# Altium footprint library PcbLib1.PcbLib: 22 footprints (part 1 of 2)
Each footprint in its own frame and in the unit in brackets; x right, y up, seen from the top. Pads: shape width x height; smd on the part's side, far side on the other; paste and mask are expansions set on the pad; w line width, h text height; cw(c..) or ccw(c..) is an arc to the next point about the centre after c.
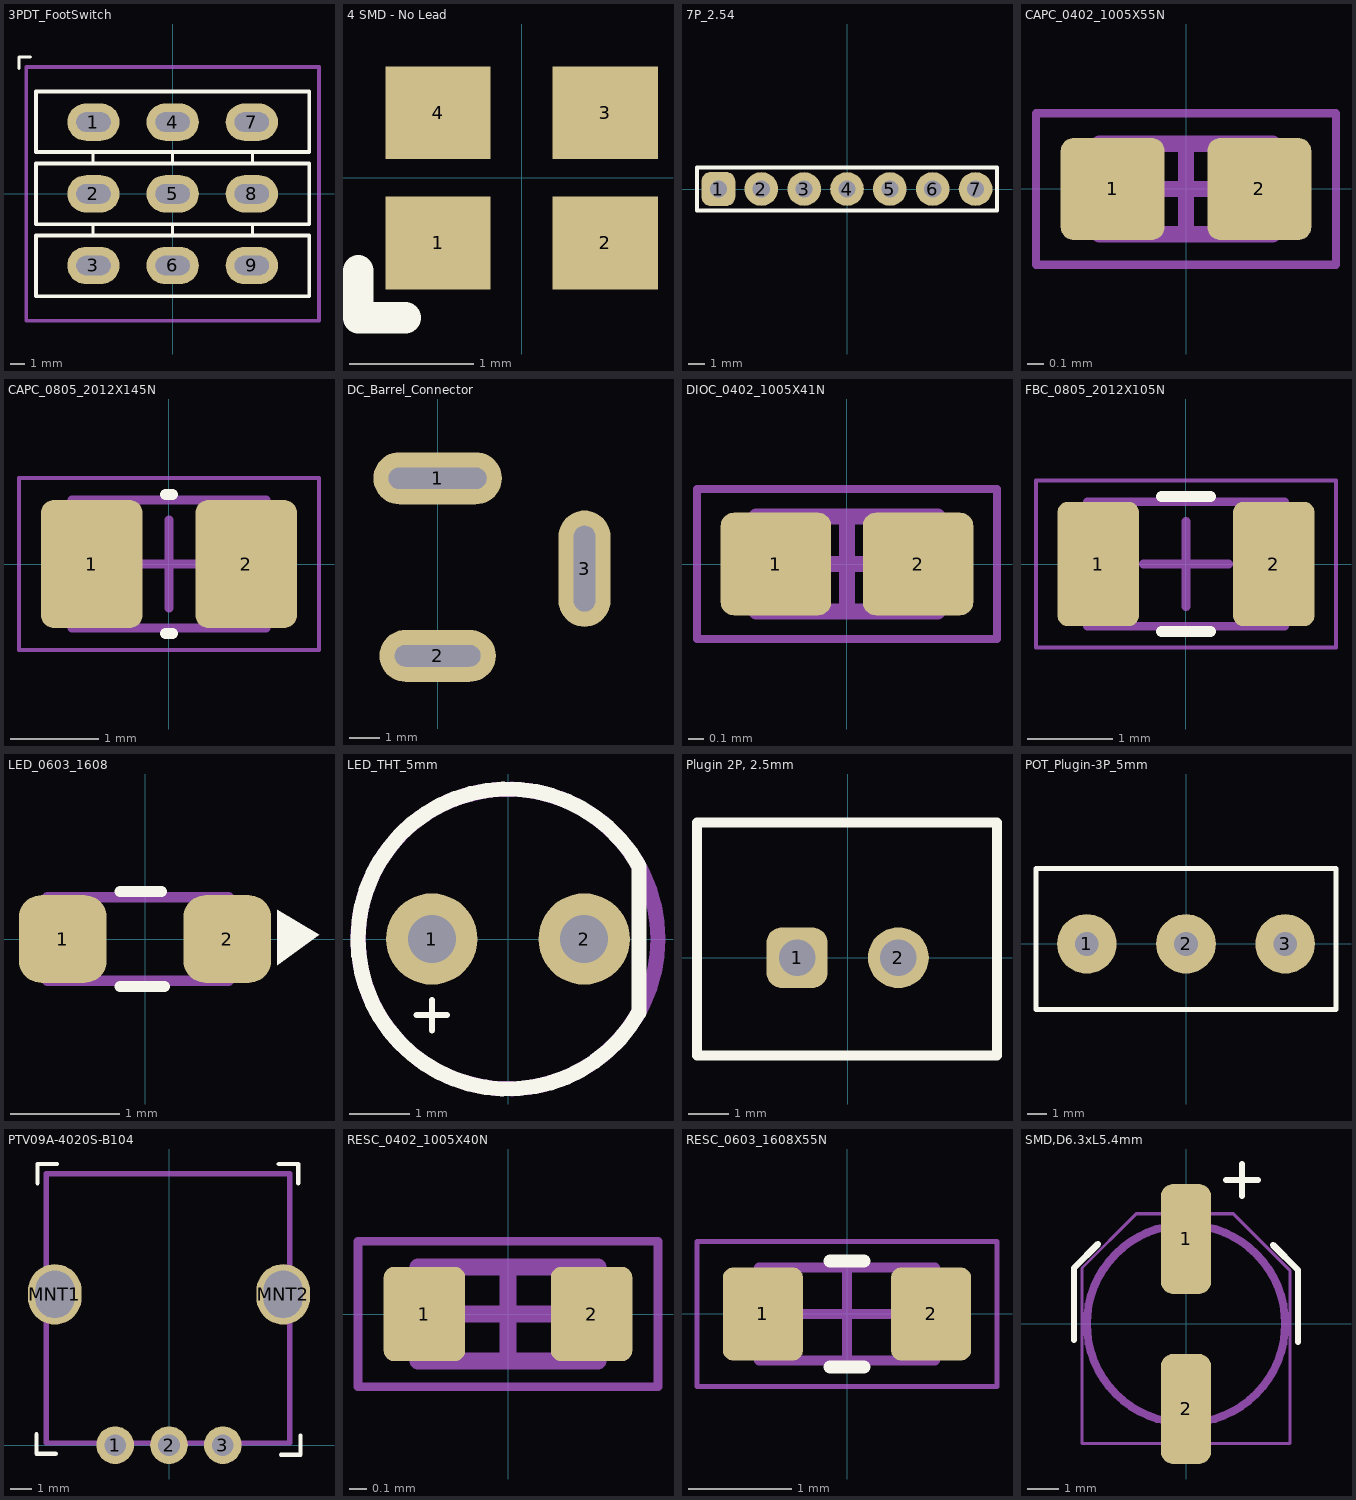
[diagram p0: the footprints below, top view; thin cyan lines are the x and y axes]

## 3PDT_FootSwitch [mm]
pads (9):
  oval 3.5x2.5 hole 1.3 slot 2.3 at 0 deg: 1(-5.3,4.8) 2(-5.3,0) 3(-5.3,-4.8) 4(0,4.8) 5(0,0) 6(0,-4.8) 7(5.3,4.8) 8(5.3,0) 9(5.3,-4.8)
Top Overlay:
  lines w0.2: -10.287,8.382 -10.287,9.144 -9.525,9.144 ; -5.337,-2.032 -5.335,-2.794 ; -5.334,2.032 -5.334,2.794 ; -0.003,-2.032 -0.001,-2.794 ; 0,2.032 0,2.794 ; 5.331,2.794 5.333,2.032 ; 5.334,-2.794 5.334,-2.032
  lines w0.254: -9.144,-6.858 9.144,-6.858 9.144,-2.794 -9.144,-2.794 -9.144,-6.858 ; -9.144,-2.032 9.144,-2.032 9.144,2.032 -9.144,2.032 -9.144,-2.032 ; -9.144,2.794 9.144,2.794 9.144,6.858 -9.144,6.858 -9.144,2.794
Mechanical 1:
  lines w0.254: -9.8,-8.5 9.8,-8.5 9.8,8.5 -9.8,8.5 -9.8,-8.5
3D body "FS57003PLT2B2M1QE.stp": height 39, standoff -2.4, extent -9.8,-8.5 9.8,8.5

## 4 SMD - No Lead [mm]
pads (4):
  rect 0.85x0.75 smd: 1(-0.675,-0.525) 2(0.675,-0.525) 3(0.675,0.525) 4(-0.675,0.525)
Top Overlay:
  lines w0.254: -1.321,-0.749 -1.321,-1.13 -0.94,-1.13
3D body "NX2016SA_NDK.step": height 0.51, standoff 0, extent -1.054,-0.851 1.054,0.851

## 7P_2.54 [mm] "7 Pin, 2.54mm pitch"
pads (7):
  rrect50% 2x2 hole 1.02: 1(-7.62,0)
  round 2 hole 1.02: 2(-5.08,0) 3(-2.54,0) 4(0,0) 5(2.54,0) 6(5.08,0) 7(7.62,0)
Top Overlay:
  lines w0.254: -8.89,-1.27 8.89,-1.27 8.89,1.27 -8.89,1.27 -8.89,-1.27
3D body "PPPC071LFBN-RC--3DModel-STEP-269445.STEP": height 8.51, standoff -3.2, extent -9.144,-1.27 9.144,1.27

## CAPC_0402_1005X55N [mm] "Chip Capacitor, 2-Leads, Body 1.00x0.50mm, IPC Medium Density"
height 0.55
pads (2):
  rrect25% 0.63x0.62 smd: 1(-0.445,0) 2(0.445,0)
Top Assembly:
  lines w0.1: -0.525,-0.275 -0.525,0.275 0.525,0.275 0.525,-0.275 -0.525,-0.275
Top Designator:
  text ".Designator" at 0,0.189 h1
Top Courtyard:
  lines w0.05: -0.91,-0.46 -0.91,0.46 0.91,0.46 0.91,-0.46 -0.91,-0.46
Top Component Center:
  lines w0.1: -0.275,0 0.275,0 ; 0,-0.275 0,0.275
3D body: height 0.55, standoff 0, extent -0.25,-0.25 0.25,0.25
3D body: height 0.55, standoff 0, extent -0.5,-0.25 -0.25,0.25
3D body: height 0.55, standoff 0, extent 0.25,-0.25 0.5,0.25

## CAPC_0805_2012X145N [mm] "Chip Capacitor, 2-Leads, Body 2.00x1.25mm, IPC Medium Density"
height 1.45
pads (2):
  rrect25% 1.15x1.45 smd: 1(-0.875,0) 2(0.875,0)
Top Overlay:
  lines w0.127: -0.036,-0.788 0.036,-0.788 ; -0.036,0.788 0.036,0.788
Top Assembly:
  lines w0.1: -1.1,-0.725 -1.1,0.725 1.1,0.725 1.1,-0.725 -1.1,-0.725
Top Designator:
  text ".Designator" at 0,0.189 h1
Top Courtyard:
  lines w0.05: -1.7,-0.975 -1.7,0.975 1.7,0.975 1.7,-0.975 -1.7,-0.975
Top Component Center:
  lines w0.1: -0.5,0 0.5,0 ; 0,-0.5 0,0.5
3D body: height 1.45, standoff 0, extent -0.5,-0.625 0.5,0.625
3D body: height 1.45, standoff 0, extent -1,-0.625 -0.5,0.625
3D body: height 1.45, standoff 0, extent 0.5,-0.625 1,0.625

## DC_Barrel_Connector [mm]
pads (3):
  oval 4.2x1.7 hole 0.7 slot 3.2 at 0 deg: 1(0,13.5)
  oval 3.8x1.7 hole 0.7 slot 2.8 at 0 deg: 2(0,7.7)
  oval 1.7x3.8 hole 0.7 slot 2.8 at 90 deg: 3(4.8,10.55)
3D body "694106301002 (rev1).stp": height 11.35, standoff -3.24, extent -4.5,-0.05 5,14.45

## DIOC_0402_1005X41N [mm] "Chip Diode, 2-Leads, Body 1.00x0.50mm, IPC Medium Density"
height 0.41
pads (2):
  rrect25% 0.7x0.65 smd: 1(-0.45,0) 2(0.45,0)
Top Assembly:
  lines w0.1: -0.575,-0.3 0.575,-0.3 0.575,0.3 -0.575,0.3 -0.575,-0.3
Top Designator:
  text ".Designator" at 0,0.189 h1
Top Courtyard:
  lines w0.05: -0.95,-0.475 0.95,-0.475 0.95,0.475 -0.95,0.475 -0.95,-0.475
Top Component Center:
  lines w0.1: -0.3,0 0.3,0 ; 0,-0.3 0,0.3
3D body: height 0.41, standoff 0, extent 0.25,-0.25 0.5,0.25
3D body: height 0.41, standoff 0, extent -0.5,-0.25 -0.25,0.25
3D body: height 0.41, standoff 0, extent -0.25,-0.25 0.25,0.25

## FBC_0805_2012X105N [mm] "Ferrite Bead, 2-Leads, Body 2.00x1.25mm, IPC Medium Density"
height 1.05
pads (2):
  rrect25% 0.95x1.45 smd: 1(-1.025,0) 2(1.025,0)
Top Overlay:
  lines w0.127: -0.286,-0.788 0.287,-0.788 ; -0.286,0.788 0.287,0.788
Top Assembly:
  lines w0.1: -1.15,-0.725 -1.15,0.725 1.15,0.725 1.15,-0.725 -1.15,-0.725
Top Designator:
  text ".Designator" at 0,0.189 h1
Top Courtyard:
  lines w0.05: -1.75,-0.975 -1.75,0.975 1.75,0.975 1.75,-0.975 -1.75,-0.975
Top Component Center:
  lines w0.1: -0.5,0 0.5,0 ; 0,-0.5 0,0.5
3D body: height 1.05, standoff 0, extent -0.71,-0.625 0.71,0.625
3D body: height 1.05, standoff 0, extent -1,-0.625 -0.71,0.625
3D body: height 1.05, standoff 0, extent 0.71,-0.625 1,0.625

## LED_0603_1608 [mm]
pads (2):
  rrect50% 0.8x0.8 smd: 1(-0.75,0) 2(0.75,0)
Top Overlay:
  region: 1.206,0.267 1.206,-0.241 1.587,0.038
  lines w0.1: -0.229,-0.432 0.178,-0.432 ; -0.229,0.432 0.152,0.432
Top Assembly:
  lines w0.1: -0.889,-0.381 0.762,-0.381 ; -0.889,0.381 0.762,0.381
3D body "LSM0603XXXV.STEP": height 0.55, standoff -0.03, extent -0.8,-0.406 0.8,0.394

## LED_THT_5mm [mil]
pads (2):
  round 60 hole 31.5: 1(-50,0) 2(50,0)
Top Overlay:
  lines w3.94: -60,-50 -40,-50 ; -50,-60 -50,-40
  lines w10: 85.76,-48.43 cw(c0,0) 86.09,47.83 86.09,-48.43
Mechanical 1:
  circle w10: c0,0 r98.43
3D body "L-53GD--3DModel-STEP-510211.STEP": height 377.95, standoff -1023.62, extent -115.51,-116.14 98.43,116.14

## Plugin 2P, 2.5mm [mm] "2.5mm pitch THT footprint"
pads (2):
  rrect50% 1.5x1.5 hole 0.9: 1(-1.25,0)
  round 1.5 hole 0.9: 2(1.25,0)
Top Overlay:
  lines w0.254: -3.717,-2.413 3.683,-2.413 3.683,3.337 -3.717,3.337 -3.717,-2.413
3D body "B2B-XH-A--3DModel-STEP-56544.STEP": height 7, standoff -3.4, extent -3.7,-2.367 3.7,3.383

## POT_Plugin-3P_5mm [mm] "Generic Footprint for Pots"
pads (3):
  round 3 hole 1.2: 1(-5,0) 2(0,0) 3(5,0)
Top Overlay:
  lines w0.254: -7.56,-3.302 7.56,-3.302 7.56,3.8 -7.56,3.8 -7.56,-3.302
3D body "Potentiometer.stp": height 22.25, standoff -3.3, extent -8.25,-18.7 8.25,5.6

## PTV09A-4020S-B104 [mm]
pads (5):
  round 1.75 hole 1: 1(-2.5,0) 2(0,0) 3(2.5,0)
  oval 2.5x2.8 hole 1.8 slot 2.2 at 90 deg unplated: MNT1(-5.3,7) MNT2(5.3,7)
Top Overlay:
  lines w0.2: -6.15,0.5 -6.15,-0.4 -5.25,-0.4 ; -6.1,12.15 -6.1,13.05 -5.2,13.05 ; 5.1,13.05 6,13.05 6,12.15 ; 5.2,-0.45 6.1,-0.45 6.1,0.45
Top 3D Body:
  lines w0.254: -5.7,0.1 5.6,0.1 5.6,12.6 -5.7,12.6 -5.7,0.1
3D body "R-0904N-L-25KQ.step": height 25, standoff -3.79, extent -5.661,0 5.661,12.6

## RESC_0402_1005X40N [mm] "Chip Resistor, 2-Leads, Body 1.00x0.50mm, IPC Medium Density"
height 0.4
pads (2):
  rrect25% 0.475x0.55 smd: 1(-0.487,0) 2(0.487,0)
Top Assembly:
  lines w0.1: -0.525,-0.275 0.525,-0.275 0.525,0.275 -0.525,0.275 -0.525,-0.275
Top Designator:
  text ".Designator" at 0,0.189 h1
Top Courtyard:
  lines w0.05: -0.875,-0.425 0.875,-0.425 0.875,0.425 -0.875,0.425 -0.875,-0.425
Top Component Center:
  lines w0.1: -0.275,0 0.275,0 ; 0,-0.275 0,0.275
3D body: height 0.4, standoff 0, extent 0.3,-0.25 0.5,0.25
3D body: height 0.4, standoff 0, extent -0.5,-0.25 -0.3,0.25
3D body: height 0.4, standoff 0, extent -0.3,-0.25 0.3,0.25

## RESC_0603_1608X55N [mm] "Chip Resistor, 2-Leads, Body 1.60x0.80mm, IPC Medium Density"
height 0.55
pads (2):
  rrect25% 0.775x0.9 smd: 1(-0.813,0) 2(0.813,0)
Top Overlay:
  lines w0.127: -0.162,-0.514 0.162,-0.514 ; -0.162,0.513 0.162,0.513
Top Assembly:
  lines w0.1: -0.85,-0.45 0.85,-0.45 0.85,0.45 -0.85,0.45 -0.85,-0.45
Top Designator:
  text ".Designator" at -2.286,0.951 h1
Top Courtyard:
  lines w0.05: -1.45,-0.7 1.45,-0.7 1.45,0.7 -1.45,0.7 -1.45,-0.7
Top Component Center:
  lines w0.1: -0.45,0 0.45,0 ; 0,-0.45 0,0.45
3D body: height 0.55, standoff 0, extent 0.55,-0.4 0.8,0.4
3D body: height 0.55, standoff 0, extent -0.8,-0.4 -0.55,0.4
3D body: height 0.55, standoff 0, extent -0.55,-0.4 0.55,0.4

## SMD,D6.3xL5.4mm [mm]
pads (2):
  rrect50% 1.6x3.5 smd: 1(0,2.7) 2(0,-2.7)
Top Overlay:
  lines w0.2: -3.556,-0.508 -3.556,1.778 -2.794,2.54 ; 1.27,4.572 2.286,4.572 ; 1.778,4.064 1.778,5.08 ; 2.762,2.508 3.556,1.715 3.556,-0.571
Top Courtyard:
  circle w0.254: c0,0 r3.15
  lines w0.1: -3.302,-0.508 -3.302,1.778 -1.58,3.5 1.5,3.5 3.3,1.7 3.3,-3.8 -3.3,-3.8 -3.3,-0.51
3D body "EEEFK1H330XL.STEP": height 7.7, standoff 0, extent -3.298,-3.81 3.302,3.49